# Altium footprint library 43030-0003.PcbLib: 1 footprints
Each footprint in its own frame and in the unit in brackets; x right, y up, seen from the top. Pads: shape width x height; smd on the part's side, far side on the other; paste and mask are expansions set on the pad; w line width, h text height; cw(c..) or ccw(c..) is an arc to the next point about the centre after c.

## 43030-0003 [mm] "Molex Micro-Fit 3.0 Crimp Terminal"
3D body "430300003.stp": height -5.41, standoff -7.92, extent -1.192,-5.246 1.143,5.754